# EAGLE library part SN74LVC573APWR (library SamacSys_Parts)
SN74LVC573APWR, Octal D Type Latch Transparent 3 State 1.65 V to 3.6 V 20-Pin TSSOP Source: Datasheet <http://www.ti.com/lit/ds/symlink/sn74lvc573a.pdf>
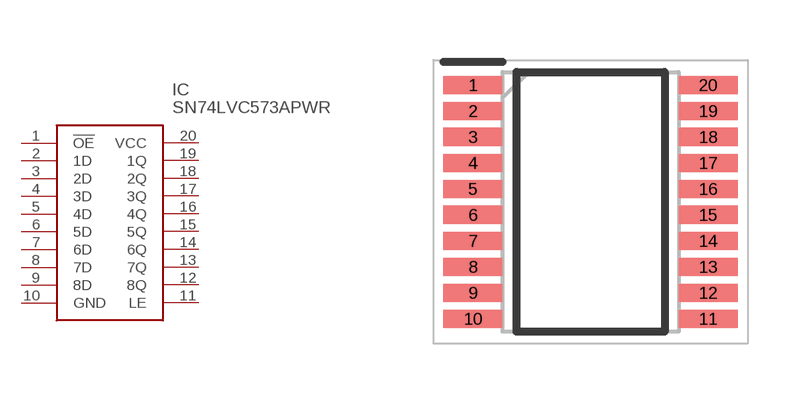
[diagram p23: symbol with the pads of SOP65P640X120-20N; footprint SOP65P640X120-20N]

Designator prefix IC

## SN74LVC573APWR (DESCRIPTION: SN74LVC573APWR, Octal D Type Latch Transparent 3 State 1.65 V to 3.6 V 20-Pin TSSOP; HEIGHT: 1.2mm; MANUFACTURER_NAME: Texas Instruments; MANUFACTURER_PART_NUMBER: SN74LVC573APWR; MOUSER_PART_NUMBER: 595-SN74LVC573APWR; MOUSER_PRICE-STOCK: https://www.mouser.co.uk/ProductDetail/Texas-Instruments/SN74LVC573APWR?qs=8Pd2FuFSoMH8DCnweQKpUg%3D%3D)  [SOP65P640X120-20N]
1  !OE
2  1D  in
3  2D  in
4  3D  in
5  4D  in
6  5D  in
7  6D  in
8  7D  in
9  8D  in
10  GND  pwr
11  LE
12  8Q  out
13  7Q  out
14  6Q  out
15  5Q  out
16  4Q  out
17  3Q  out
18  2Q  out
19  1Q  out
20  VCC  pwr

## Footprint SOP65P640X120-20N (pad centres in mm)
PW (R-PDSO-G20)
smd 1.475 x 0.45: 1 -2.938,2.925; 2 -2.938,2.275; 3 -2.938,1.625; 4 -2.938,0.975; 5 -2.938,0.325; 6 -2.938,-0.325; 7 -2.938,-0.975; 8 -2.938,-1.625; 9 -2.938,-2.275; 10 -2.938,-2.925; 11 2.938,-2.925; 12 2.938,-2.275; 13 2.938,-1.625; 14 2.938,-0.975; 15 2.938,-0.325; 16 2.938,0.325; 17 2.938,0.975; 18 2.938,1.625; 19 2.938,2.275; 20 2.938,2.925